# Altium footprint library XDCR_PEC11R-4215F-S0024.PcbLib: 1 footprints
Each footprint in its own frame and in the unit in brackets; x right, y up, seen from the top. Pads: shape width x height; smd on the part's side, far side on the other; paste and mask are expansions set on the pad; w line width, h text height; cw(c..) or ccw(c..) is an arc to the next point about the centre after c.
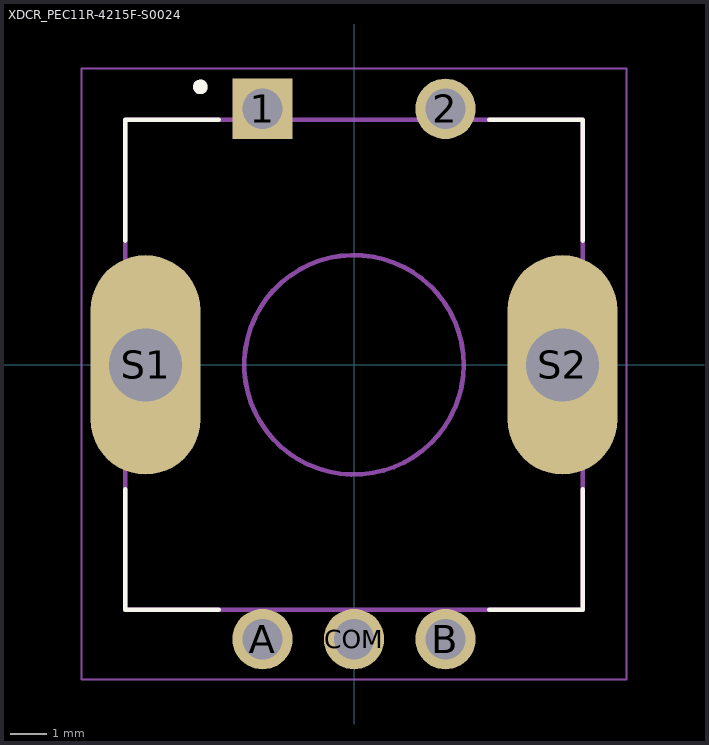
[diagram p0: the footprint, top view; thin cyan lines are the x and y axes]

## XDCR_PEC11R-4215F-S0024 [mm]
pads (7):
  rect 1.65x1.65 hole 1.1: 1(-2.5,7)
  round 1.65 hole 1.1: 2(2.5,7) A(-2.5,-7.5) B(2.5,-7.5) COM(0,-7.5)
  oval 3x6 hole 2 square: S1(-5.7,0) S2(5.7,0)
Top Overlay:
  circle w0.2: c-4.2,7.6 r0.1
  lines w0.127: -6.25,-3.4 -6.25,-6.7 -3.7,-6.7 ; -6.25,3.4 -6.25,6.7 -3.7,6.7 ; 3.7,-6.7 6.25,-6.7 6.25,-3.4 ; 3.7,6.7 6.25,6.7 6.25,3.4
Mechanical 13:
  circle w0.127: c0,0 r3
  circle w0.2: c-4.2,7.6 r0.1
  lines w0.127: -6.25,-6.7 6.25,-6.7 6.25,6.7 -6.25,6.7 -6.25,-6.7
Mechanical 15:
  lines w0.05: -7.45,-8.6 -7.45,8.1 7.45,8.1 7.45,-8.6 -7.45,-8.6